# EAGLE library part MAXIM_BY_ELEMENT14_BATCH_1_MAX6369KA+T (library Mainboard)
Pin-Selectable Watchdog Timers
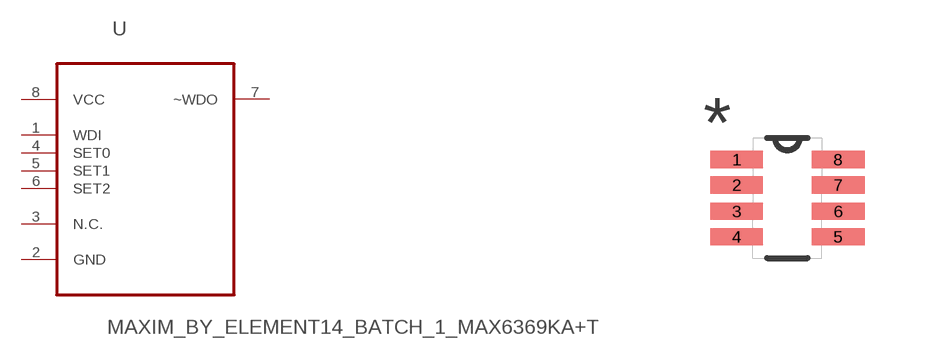
[diagram p2: symbol with the pads of MAXIM_BY_ELEMENT14_BATCH_1_SOT65P280X145-8N; footprint MAXIM_BY_ELEMENT14_BATCH_1_SOT65P280X145-8N]

Designator prefix U

## MAXIM_BY_ELEMENT14_BATCH_1_MAX6369KA+T (MPN: MAX6369KA+T; OC_FARNELL: 1787051; OC_NEWARK: 68K9450; PACKAGE: SOT23-8; SUPPLIER: Maxim)  [MAXIM_BY_ELEMENT14_BATCH_1_SOT65P280X145-8N]
1  WDI  in
2  GND  pas
3  N.C.  nc
4  SET0  in
5  SET1  in
6  SET2  in
7  ~WDO  out
8  VCC  pwr

## Footprint MAXIM_BY_ELEMENT14_BATCH_1_SOT65P280X145-8N (pad centres in mm)
smd 1.321 x 0.432: 1 -1.27,0.965; 2 -1.27,0.33; 3 -1.27,-0.33; 4 -1.27,-0.965; 5 1.27,-0.965; 6 1.27,-0.33; 7 1.27,0.33; 8 1.27,0.965